# Altium footprint library Modular_Jack_Single_8P8C_Vertical_WithLED.PcbLib: 1 footprints
Each footprint in its own frame and in the unit in brackets; x right, y up, seen from the top. Pads: shape width x height; smd on the part's side, far side on the other; paste and mask are expansions set on the pad; w line width, h text height; cw(c..) or ccw(c..) is an arc to the next point about the centre after c.
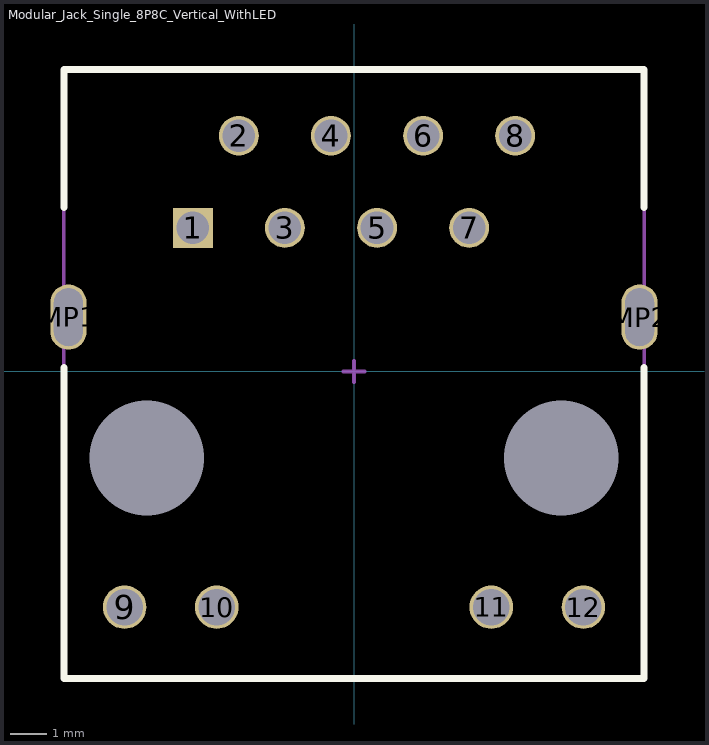
[diagram p0: the footprint, top view; thin cyan lines are the x and y axes]

## Modular_Jack_Single_8P8C_Vertical_WithLED [mm] "Modular Jack, 8P8C, with LED,vertical, Front post, shielded"
height 16.4
pads (16):
  rect 1.1x1.1 hole 0.9: 1(-4.445,3.96)
  round 1.1 hole 0.9: 2(-3.175,6.5) 3(-1.905,3.96) 4(-0.635,6.5) 5(0.635,3.96) 6(1.905,6.5) 7(3.175,3.96) 8(4.445,6.5)
  round 1.2 hole 1: 9(-6.325,-6.5) 10(-3.785,-6.5) 11(3.785,-6.5) 12(6.325,-6.5)
  oval 1x1.8 hole 0.8 slot 1.6 at 90 deg: MP1(-7.875,1.5) MP2(7.875,1.5)
  rect 0x0 hole 3.17 unplated: TH1(-5.715,-2.39) TH2(5.715,-2.39)
Top Overlay:
  lines w0.2: -8,0.11 -8,-8.47 8,-8.47 8,0.11 ; -8,4.53 -8,8.33 8,8.33 8,4.53
Mechanical 15:
  lines w0.1: -0.3,0 0.3,0 ; 0,-0.3 0,0.3 ; -8,-8.47 8,-8.47 8,8.33 -8,8.33 -8,-8.47
3D body: height 16.9, standoff -3.95, extent -8.025,-8.49 8.025,8.41